# EAGLE library part ET60T-00-24-04-X-RTX-GP-HS (library ET60T-00-24-04-X-RTX-GP-HS)
R/A PLUG TEN60 POWER ASSEM.
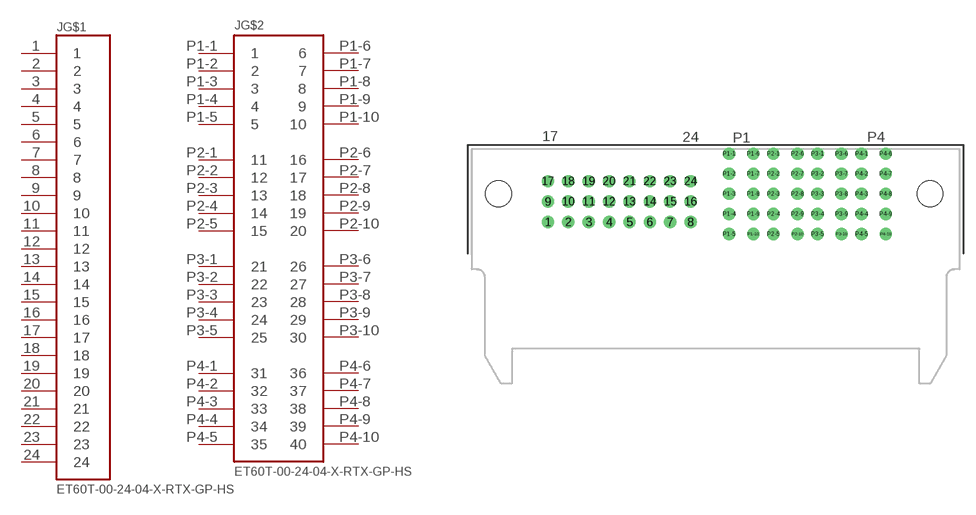
[diagram p0: symbol with the pads of ET60T-00-24-04-X-RTX-GP-HS; footprint ET60T-00-24-04-X-RTX-GP-HS]

Designator prefix J; gates G$1=ET60T-00-24-04-X-RTX-GP-HS-A G$2=ET60T-00-24-04-X-RTX-GP-HS-B

## ET60T-00-24-04-X-RTX-GP-HS  [ET60T-00-24-04-X-RTX-GP-HS]
1  G$1:1
2  G$1:2
3  G$1:3
4  G$1:4
5  G$1:5
6  G$1:6
7  G$1:7
8  G$1:8
9  G$1:9
10  G$1:10
11  G$1:11
12  G$1:12
13  G$1:13
14  G$1:14
15  G$1:15
16  G$1:16
17  G$1:17
18  G$1:18
19  G$1:19
20  G$1:20
21  G$1:21
22  G$1:22
23  G$1:23
24  G$1:24
P1-1  G$2:1
P1-2  G$2:2
P1-3  G$2:3
P1-4  G$2:4
P1-5  G$2:5
P1-6  G$2:6
P1-7  G$2:7
P1-8  G$2:8
P1-9  G$2:9
P1-10  G$2:10
P2-1  G$2:11
P2-2  G$2:12
P2-3  G$2:13
P2-4  G$2:14
P2-5  G$2:15
P2-6  G$2:16
P2-7  G$2:17
P2-8  G$2:18
P2-9  G$2:19
P2-10  G$2:20
P3-1  G$2:21
P3-2  G$2:22
P3-3  G$2:23
P3-4  G$2:24
P3-5  G$2:25
P3-6  G$2:26
P3-7  G$2:27
P3-8  G$2:28
P3-9  G$2:29
P3-10  G$2:30
P4-1  G$2:31
P4-2  G$2:32
P4-3  G$2:33
P4-4  G$2:34
P4-5  G$2:35
P4-6  G$2:36
P4-7  G$2:37
P4-8  G$2:38
P4-9  G$2:39
P4-10  G$2:40

## Footprint ET60T-00-24-04-X-RTX-GP-HS (pad centres in mm)
R/A PLUG TEN60 POWER ASSEM.
drill 1.02 pad 1.5 round: 1 -20.894,4.4; 2 -18.354,4.4; 3 -15.814,4.4; 4 -13.274,4.4; 5 -10.734,4.4; 6 -8.194,4.4; 7 -5.654,4.4; 8 -3.114,4.4; 9 -20.894,6.94; 10 -18.354,6.94; 11 -15.814,6.94; 12 -13.274,6.94; 13 -10.734,6.94; 14 -8.194,6.94; 15 -5.654,6.94; 16 -3.114,6.94; 17 -20.894,9.48; 18 -18.354,9.48; 19 -15.814,9.48; 20 -13.274,9.48; 21 -10.734,9.48; 22 -8.194,9.48; 23 -5.654,9.48; 24 -3.114,9.48; P1-1 1.696,12.9; P1-2 1.696,10.4; P1-3 1.696,7.9; P1-4 1.696,5.4; P1-5 1.696,2.9; P1-6 4.696,12.9; P1-7 4.696,10.4; P1-8 4.696,7.9; P1-9 4.696,5.4; P1-10 4.696,2.9; P2-1 7.196,12.9; P2-2 7.196,10.4; P2-3 7.196,7.9; P2-4 7.196,5.4; P2-5 7.196,2.9; P2-6 10.196,12.9; P2-7 10.196,10.4; P2-8 10.196,7.9; P2-9 10.196,5.4; P2-10 10.196,2.9; P3-1 12.696,12.9; P3-2 12.696,10.4; P3-3 12.696,7.9; P3-4 12.696,5.4; P3-5 12.696,2.9; P3-6 15.696,12.9; P3-7 15.696,10.4; P3-8 15.696,7.9; P3-9 15.696,5.4; P3-10 15.696,2.9; P4-1 18.196,12.9; P4-2 18.196,10.4; P4-3 18.196,7.9; P4-4 18.196,5.4; P4-5 18.196,2.9; P4-6 21.196,12.9; P4-7 21.196,10.4; P4-8 21.196,7.9; P4-9 21.196,5.4; P4-10 21.196,2.9
hole 3.2 at -27.064,7.9
hole 3.2 at 26.696,7.9